# EAGLE library part CD4504B (library Parts)
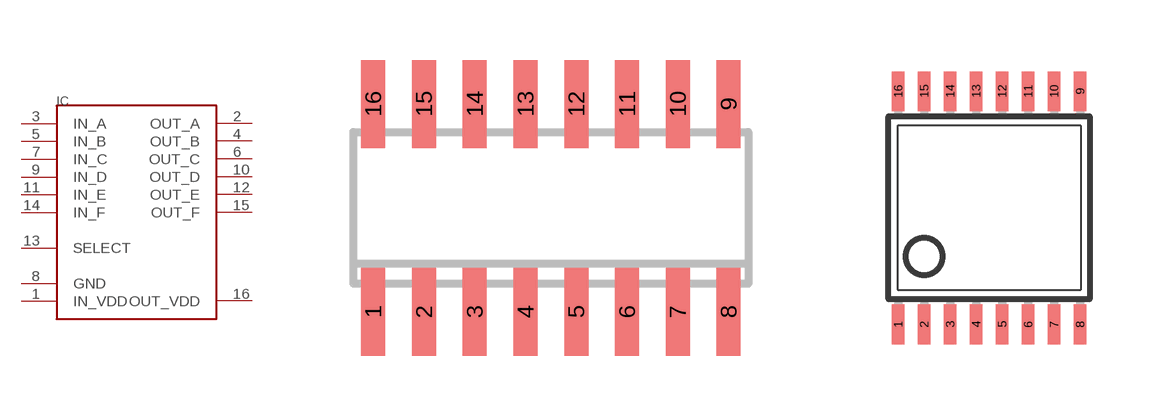
[diagram p1: symbol with the pads of SO16; footprints SO16, TSSOP16]

Designator prefix IC

## CD4504BSOIC-16 (MOUSER: 595-CD4504BM96)  [SO16]
1  IN_VDD  pwr
2  OUT_A  in
3  IN_A  in
4  OUT_B  in
5  IN_B  in
6  OUT_C  in
7  IN_C  in
8  GND  pwr
9  IN_D  in
10  OUT_D  in
11  IN_E  in
12  OUT_E  in
13  SELECT
14  IN_F  in
15  OUT_F  in
16  OUT_VDD  pwr

## CD4504BTSSOP-16 (MOUSER: 595-CD4504BPWR)  [TSSOP16]
Pads as for SO16

## Footprint SO16 (pad centres in mm)
SMALL OUTLINE INTEGRATED CIRCUIT body 3.9 mm/JEDEC MS-012AC
smd 0.6 x 2.2: 1 -4.445,-2.6; 2 -3.175,-2.6; 3 -1.905,-2.6; 4 -0.635,-2.6; 5 0.635,-2.6; 6 1.905,-2.6; 7 3.175,-2.6; 8 4.445,-2.6; 9 4.445,2.6; 10 3.175,2.6; 11 1.905,2.6; 12 0.635,2.6; 13 -0.635,2.6; 14 -1.905,2.6; 15 -3.175,2.6; 16 -4.445,2.6

## Footprint TSSOP16 (pad centres in mm)
Thin Shrink Small Outline Plastic 16 MAX3223-MAX3243.pdf
smd 0.305 x 0.991: 1 -2.275,-2.918; 2 -1.625,-2.918; 3 -0.975,-2.918; 4 -0.325,-2.918; 5 0.325,-2.918; 6 0.975,-2.918; 7 1.625,-2.918; 8 2.275,-2.918; 9 2.275,2.918; 10 1.625,2.918; 11 0.975,2.918; 12 0.325,2.918; 13 -0.325,2.918; 14 -0.975,2.918; 15 -1.625,2.918; 16 -2.275,2.918